# Altium footprint library PL02_22F.PcbLib: 34 footprints (part 1 of 3)
Each footprint in its own frame and in the unit in brackets; x right, y up, seen from the top. Pads: shape width x height; smd on the part's side, far side on the other; paste and mask are expansions set on the pad; w line width, h text height; cw(c..) or ccw(c..) is an arc to the next point about the centre after c.
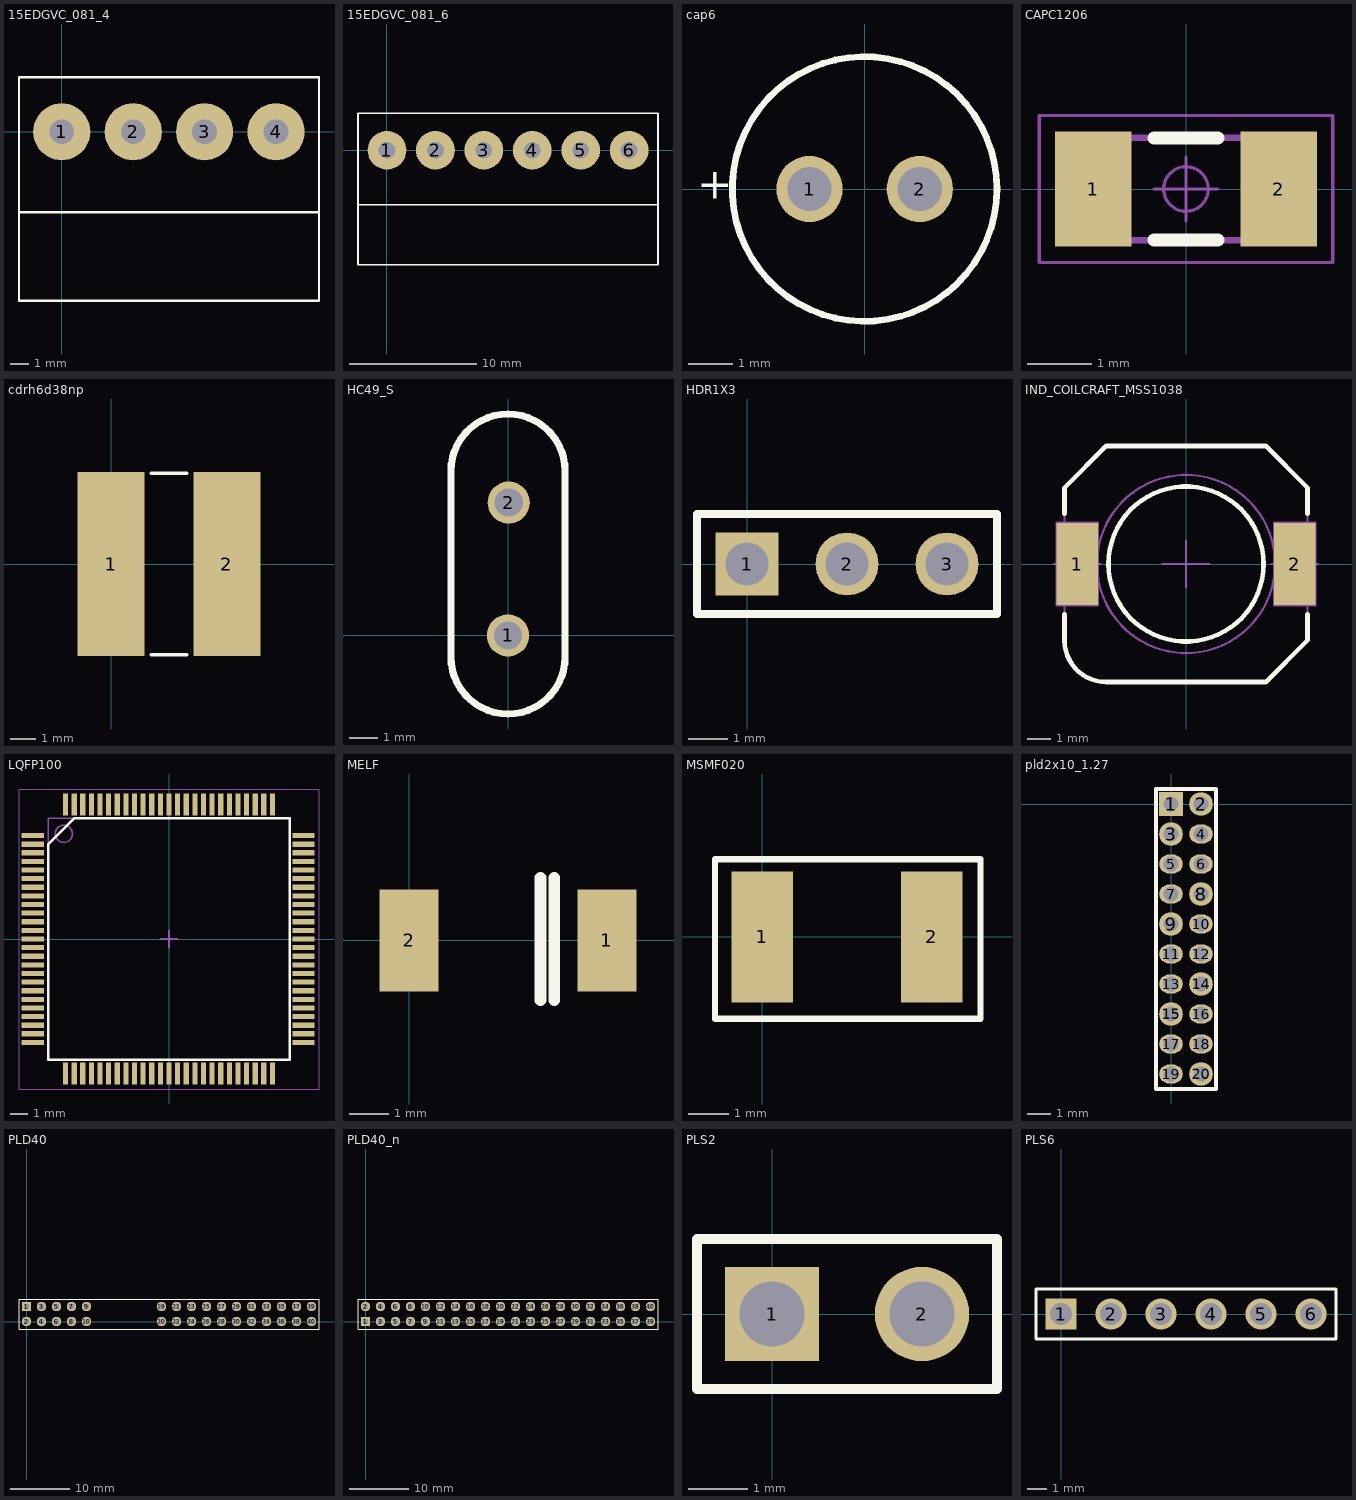
[diagram p0: the footprints below, top view; thin cyan lines are the x and y axes]

## 15EDGVC_081_4 [mil]
pads (4):
  round 120 hole 52: 1(0,0) 2(150,0) 3(300,0) 4(450,0)
Top Overlay:
  lines w5: -89.76,-169.29 540.16,-169.29 ; -89.76,-169.29 -89.76,114.17 -77.95,114.17 540.16,114.17 540.16,-169.29 ; -89.76,-169.29 -89.76,-354.33 540.16,-354.33 540.16,-169.29
3D body "PHOENIX_1803442.stp": height 362.2, standoff -133.86, extent -102.37,-167.33 552.36,118.1

## 15EDGVC_081_6 [mil]
pads (6):
  round 120 hole 52: 1(0,0) 2(150,0) 3(300,0) 4(450,0) 5(600,0) 6(750,0)
Top Overlay:
  lines w5: -89.76,-169.29 -89.76,-354.33 839.37,-354.33 839.37,-169.29 ; -89.76,-169.29 -89.76,114.17 -77.95,114.17 839.37,114.17 839.37,-169.29 ; -89.76,-169.29 839.37,-169.29
3D body "PHOENIX_1803442.stp": height 362.2, standoff -133.86, extent -102.37,-167.33 552.36,118.1
3D body "PHOENIX_1803442.stp": height 362.2, standoff -133.86, extent 197.63,-167.33 852.36,118.1

## cap6 [mm] "Capacitor, Radial, Pin spacing 2.5mm - Body Diameter 5.0mm X Body Height 11mm"
height 11
pads (2):
  round 1.5 hole 1 mask+0.1: 1(-1.25,0) 2(1.25,0)
Top Overlay:
  circle w0.15: c0,0 r3
  text "+" at -3.8,-0.225 h0.7
3D body "CAPPR250-500X1100.stp": height 10.9, standoff -3.6, extent -2.512,-2.512 2.488,2.488

## CAPC1206 [mm] "Chip Capacitor, Body 3.2x1.6mm, IPC Medium Density"
height 0.7
pads (2):
  rect 1.2x1.8 smd: 1(-1.45,0) 2(1.45,0)
Top Overlay:
  lines w0.2: -0.5,-0.8 0.5,-0.8 ; -0.5,0.8 0.5,0.8
Mechanical 14:
  lines w0.1: -1.6,-0.8 1.6,-0.8 1.6,0.8 -1.6,0.8 -1.6,-0.8
Mechanical 15:
  circle w0.05: c0,0 r0.35
  lines w0.05: -0.5,0 0.5,0 ; 0,-0.5 0,0.5 ; -2.3,-1.15 2.3,-1.15 2.3,1.15 -2.3,1.15 -2.3,-1.15
3D body "CAPC3216X70N.stp": height 0.7, standoff 0, extent -1.7,-0.9 1.7,0.9

## cdrh6d38np [mm]
height 1.3
pads (2):
  rect 2.65x7.3 smd: 1(0,0) 2(4.6,0)
Top Overlay:
  lines w0.15: 1.6,-3.6 3,-3.6 ; 1.6,3.6 3,3.6
3D body "INDM_VISHAY_IHLP2525CZ.stp": height 3, standoff 0, extent -1.32,-3.36 5.92,3.36

## HC49_S [mm] "HC-49/U-S Leaded Cristal, Body 11.5x4.66mm; Pitch 4.88mm"
height 3.5
pads (2):
  round 1.5 hole 1: 1(0,0) 2(0.025,4.724)
Top Overlay:
  lines w0.254: -2.032,-0.762 ccw(c0,-0.762) 2.032,-0.762 2.032,5.842 ccw(c0,5.842) -2.032,5.842 -2.032,-0.762
3D body "XTAL_CITIZEN_HC-49-U-S.stp": height 3.5, standoff -3.6, extent -2.355,-3.45 2.305,8.05

## HDR1X3 [mm] "Connector; Header; 3 Position"
height 0.65
pads (3):
  rect 1.6x1.6 hole 1.1: 1(0,0)
  round 1.6 hole 1.1: 2(2.54,0) 3(5.08,0)
Top Overlay:
  lines w0.2: -1.27,-1.27 6.35,-1.27 6.35,1.27 -1.27,1.27 -1.27,-1.27
3D body "SAMTEC_MTLW-103-07-L-S-250.stp": height 7.87, standoff -3.05, extent -1.27,-1.269 6.35,1.22

## IND_COILCRAFT_MSS1038 [mm] "SMD Inductor  Body Width 10mm Body Lenght 10.2mm Height 4mm"
height 4
pads (2):
  rect 1.78x3.56 smd: 1(-4.7,0) 2(4.7,0)
Top Overlay:
  circle w0.2: c0,0 r3.35
  lines w0.2: -5.25,-2.18 -5.25,-3.3 ccw(c-3.45,-3.3) -3.45,-5.1 3.45,-5.1 5.25,-3.3 5.25,-2.18 ; -5.25,2.18 -5.25,3.3 -3.45,5.1 3.45,5.1 5.25,3.3 5.25,2.18
Mechanical 8:
  lines w0.1: -5.7,0 -4.7,0 ; -4.7,-1 -4.7,0 ; -4.7,1 -4.7,0 ; -3.7,0 -4.7,0 ; -1,0 0,0 ; 0,-1 0,0 ; 0,1 0,0 ; 1,0 0,0 ; 3.7,0 4.7,0 ; 4.7,-1 4.7,0 ; 4.7,1 4.7,0 ; 5.7,0 4.7,0 ; -5.59,-1.78 -5.59,1.78 -3.81,1.78 -3.81,-1.78 -5.59,-1.78 ; 3.81,-1.78 3.81,1.78 5.59,1.78 5.59,-1.78 3.81,-1.78
Mechanical 14:
  circle w0.1: c0,0 r3.35
  circle w0.1: c0,0 r3.85
  lines w0.1: -5.25,-1.6 -3.85,-1.6 -3.85,1.6 -5.25,1.6 ; -5.25,-1.6 -5.25,-3.3 ccw(c-3.45,-3.3) -3.45,-5.1 3.45,-5.1 5.25,-3.3 5.25,-1.6 ; -5.25,-1.6 -5.25,1.6 ; -5.25,1.6 -5.25,3.3 -3.45,5.1 3.45,5.1 5.25,3.3 5.25,1.6 ; 5.25,-1.6 3.85,-1.6 3.85,1.6 5.25,1.6 ; 5.25,-1.6 5.25,1.6
3D body "IND_COILCRAFT_MSS1038.stp": height 4, standoff 0, extent -5.25,-5.1 5.25,5.1

## LQFP100 [mm] "TSQFP, 100-Leads, Body 14,00x14,00mm, Pitch 0,50mm, IPC Medium Density"
height 1.6
pads (100):
  rect 1.3x0.3 smd: 1(-7.9,6) 2(-7.9,5.5) 3(-7.9,5) 4(-7.9,4.5) 5(-7.9,4) 6(-7.9,3.5) 7(-7.9,3) 8(-7.9,2.5) 9(-7.9,2) 10(-7.9,1.5) 11(-7.9,1) 12(-7.9,0.5) 13(-7.9,0) 14(-7.9,-0.5) 15(-7.9,-1) 16(-7.9,-1.5) 17(-7.9,-2) 18(-7.9,-2.5) 19(-7.9,-3) 20(-7.9,-3.5) 21(-7.9,-4) 22(-7.9,-4.5) 23(-7.9,-5) 24(-7.9,-5.5) 25(-7.9,-6) 51(7.8,-6) 52(7.8,-5.5) 53(7.8,-5) 54(7.8,-4.5) 55(7.8,-4) 56(7.8,-3.5) 57(7.8,-3) 58(7.8,-2.5) 59(7.8,-2) 60(7.8,-1.5) 61(7.8,-1) 62(7.8,-0.5) 63(7.8,0) 64(7.8,0.5) 65(7.8,1) 66(7.8,1.5) 67(7.8,2) 68(7.8,2.5) 69(7.8,3) 70(7.8,3.5) 71(7.8,4) 72(7.8,4.5) 73(7.8,5) 74(7.8,5.5) 75(7.8,6)
  rect 0.3x1.3 smd: 26(-6,-7.8) 27(-5.5,-7.8) 28(-5,-7.8) 29(-4.5,-7.8) 30(-4,-7.8) 31(-3.5,-7.8) 32(-3,-7.8) 33(-2.5,-7.8) 34(-2,-7.8) 35(-1.5,-7.8) 36(-1,-7.8) 37(-0.5,-7.8) 38(0,-7.8) 39(0.5,-7.8) 40(1,-7.8) 41(1.5,-7.8) 42(2,-7.8) 43(2.5,-7.8) 44(3,-7.8) 45(3.5,-7.8) 46(4,-7.8) 47(4.5,-7.8) 48(5,-7.8) 49(5.5,-7.8) 50(6,-7.8) 76(6,7.8) 77(5.5,7.8) 78(5,7.8) 79(4.5,7.8) 80(4,7.8) 81(3.5,7.8) 82(3,7.8) 83(2.5,7.8) 84(2,7.8) 85(1.5,7.8) 86(1,7.8) 87(0.5,7.8) 88(0,7.8) 89(-0.5,7.8) 90(-1,7.8) 91(-1.5,7.8) 92(-2,7.8) 93(-2.5,7.8) 94(-3,7.8) 95(-3.5,7.8) 96(-4,7.8) 97(-4.5,7.8) 98(-5,7.8) 99(-5.5,7.8) 100(-6,7.8)
Top Overlay:
  lines w0.15: -7,-7 -7,5.5 -5.5,7 7,7 7,-7 -7,-7
Mechanical 13:
  circle w0.1: c-6.1,6.1 r0.5
  lines w0.1: -7,-7 7,-7 7,7 -7,7 -7,-7
Mechanical 15:
  lines w0.05: -8.7,-8.7 8.7,-8.7 8.7,8.7 -8.7,8.7 -8.7,-8.7
  lines w0.1: -0.5,0 0.5,0 ; 0,-0.5 0,0.5
3D body: height 1.6, standoff 0.25, extent -7,-7 7,7

## MELF [mm]
pads (2):
  rect 1.5x2.6 smd: 1(5.04,0) 2(0,0)
Top Overlay:
  lines w0.3: 3.35,-1.525 3.35,1.6 ; 3.7,-1.525 3.7,1.6
3D body "DIOMELF5025N.stp": height 2.67, standoff 0, extent -0.08,-1.335 5.12,1.335

## MSMF020 [mm]
pads (2):
  rect 1.5x3.2 smd: 1(0,0) 2(4.14,0)
Top Overlay:
  lines w0.15: -1.16,-2 -1.16,1.9 5.34,1.9 5.34,-2 -1.16,-2
3D body "FUSR_BOURNS_MF-MSMF_STYLE2.stp": height 1.6, standoff 0, extent -0.295,-1.705 4.435,1.705

## pld2x10_1.27 [mm] "20 Contacts, Pitch 1.27mm - Horizontal, Dual Row Through Mount Right Angle Straight Header"
height 4.15
pads (20):
  rect 1x1 hole 0.65 mask+0.1: 1(0,0)
  round 1 hole 0.65 mask+0.1: 2(1.27,0) 3(0,-1.27) 8(1.27,-3.81) 9(0,-5.08) 14(1.27,-7.62) 15(0,-8.89) 20(1.27,-11.43)
  oval 1x0.8 / inner round 0 / far side round 1 hole 0.65 mask+0.1: 4(1.27,-1.27) 5(0,-2.54) 6(1.27,-2.54) 7(0,-3.81) 10(1.27,-5.08) 11(0,-6.35) 12(1.27,-6.35) 13(0,-7.62) 16(1.27,-8.89) 17(0,-10.16) 18(1.27,-10.16) 19(0,-11.43)
Top Overlay:
  lines w0.15: -0.635,-12.065 1.905,-12.065 1.905,0.635 -0.635,0.635 -0.635,-12.065
3D body "HARWIN_M50-3501042.stp": height 4, standoff -2.3, extent -1.065,-12.065 2.335,0.635

## PLD40 [mm]
height 2
pads (40):
  rect 1.6x1.6 hole 1.1 mask+0.1: 1(0,2.54)
  round 1.6 hole 1.1 mask+0.1: 2(0,0) 3(2.54,2.54) 4(2.54,0) 5(5.08,2.54) 6(5.08,0) 7(7.62,2.54) 8(7.62,0) 9(10.16,2.54) 10(10.16,0) 19(22.86,2.54) 20(22.86,0) 21(25.4,2.54) 22(25.4,0) 23(27.94,2.54) 24(27.94,0) 25(30.48,2.54) 26(30.48,0) 27(33.02,2.54) 28(33.02,0) 29(35.56,2.54) 30(35.56,0) 31(38.1,2.54) 32(38.1,0) 33(40.64,2.54) 34(40.64,0) 35(43.18,2.54) 36(43.18,0) 37(45.72,2.54) 38(45.72,0) 39(48.26,2.54) 40(48.26,0)
  round 0 all layers, no hole mask+0.1: 11(12.7,0) 12(12.7,2.54) 13(15.24,0) 14(15.24,2.54) 15(17.78,0) 16(17.78,2.54) 17(20.32,0) 18(20.32,2.54)
Top Overlay:
  lines w0.15: -1.27,-1.27 49.53,-1.27 49.53,3.81 -1.27,3.81 -1.27,-1.27
3D body "TYCO_826629-2.stp": height 9.5, standoff -3.2, extent 47.01,-1.22 49.51,3.86
3D body "SAMTEC_MTLW-105-07-L-D-250.stp": height 7.87, standoff -3.05, extent -1.27,-1.244 11.43,3.785
3D body "SAMTEC_MTLW-110-07-L-D-250.stp": height 7.87, standoff -3.05, extent 21.59,-1.244 46.99,3.785

## PLD40_n [mm]
height 2.1
pads (40):
  rect 1.6x1.6 hole 1.1 mask+0.1: 1(0,0)
  round 1.6 hole 1.1 mask+0.1: 2(0,2.54) 3(2.54,0) 4(2.54,2.54) 5(5.08,0) 6(5.08,2.54) 7(7.62,0) 8(7.62,2.54) 9(10.16,0) 10(10.16,2.54) 11(12.7,0) 12(12.7,2.54) 13(15.24,0) 14(15.24,2.54) 15(17.78,0) 16(17.78,2.54) 17(20.32,0) 18(20.32,2.54) 19(22.86,0) 20(22.86,2.54) 21(25.4,0) 22(25.4,2.54) 23(27.94,0) 24(27.94,2.54) 25(30.48,0) 26(30.48,2.54) 27(33.02,0) 28(33.02,2.54) 29(35.56,0) 30(35.56,2.54) 31(38.1,0) 32(38.1,2.54) 33(40.64,0) 34(40.64,2.54) 35(43.18,0) 36(43.18,2.54) 37(45.72,0) 38(45.72,2.54) 39(48.26,0) 40(48.26,2.54)
Top Overlay:
  lines w0.1: -1.27,-1.27 -1.27,3.81 49.53,3.81 49.53,-1.27 -1.27,-1.27
3D body "SAMTEC_MTLW-110-07-L-D-250.stp": height 7.87, standoff -3.05, extent 24.13,-1.244 49.53,3.785
3D body "SAMTEC_MTLW-110-07-L-D-250.stp": height 7.87, standoff -3.05, extent -1.27,-1.244 24.13,3.785

## PLS2 [mm]
height 9.2
pads (2):
  rect 1.6x1.6 hole 1.1: 1(0,0)
  round 1.6 hole 1.1: 2(2.54,0)
Top Overlay:
  lines w0.173: -1.27,-1.27 3.81,-1.27 3.81,1.27 -1.27,1.27 -1.27,-1.27
3D body "SAMTEC_MTLW-102-07-L-S-250.stp": height 7.87, standoff -3.05, extent -1.27,-1.244 3.81,1.245

## PLS6 [mm]
height 9.2
pads (6):
  rect 1.6x1.6 hole 1.1 unplated: 1(0,0)
  round 1.6 hole 1.1: 2(2.54,0) 3(5.08,0) 4(7.62,0) 5(10.16,0) 6(12.7,0)
Top Overlay:
  lines w0.173: -1.27,-1.27 13.97,-1.27 13.97,1.27 -1.27,1.27 -1.27,-1.27
3D body "SAMTEC_MTLW-103-07-L-S-250.stp": height 7.87, standoff -3.05, extent 6.35,-1.269 13.97,1.22
3D body "SAMTEC_MTLW-103-07-L-S-250.stp": height 7.87, standoff -3.05, extent -1.27,-1.269 6.35,1.22